# Altium footprint library DIP Fuse.PcbLib: 7 footprints
Each footprint in its own frame and in the unit in brackets; x right, y up, seen from the top. Pads: shape width x height; smd on the part's side, far side on the other; paste and mask are expansions set on the pad; w line width, h text height; cw(c..) or ccw(c..) is an arc to the next point about the centre after c.
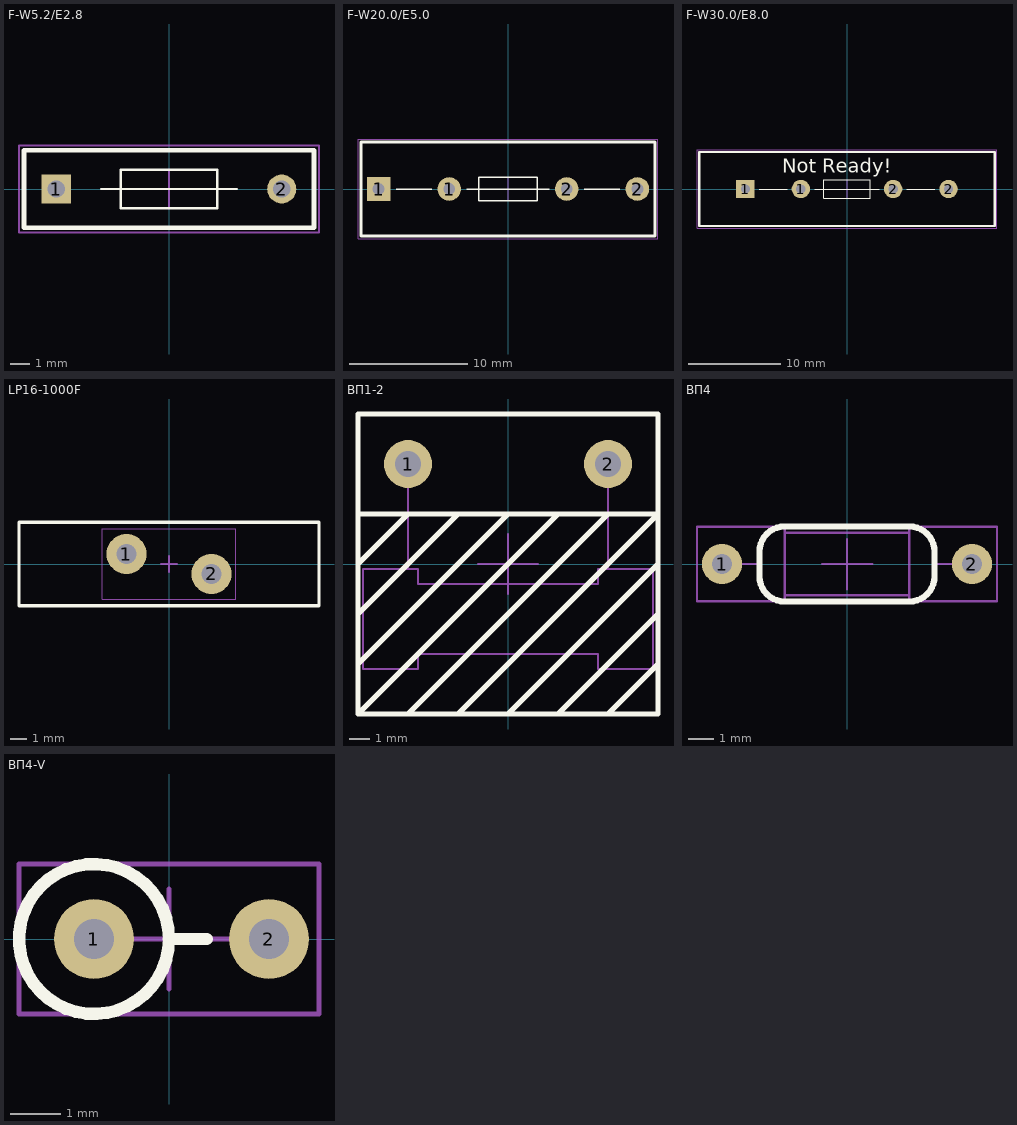
[diagram p0: the footprints below, top view; thin cyan lines are the x and y axes]

## F-W5.2/E2.8 [mm] "Through-hole Mount Fuse; 2 Leads"
height 5
pads (2):
  rect 1.5x1.5 hole 0.9: 1(-5.825,0)
  round 1.5 hole 0.9: 2(5.825,0)
Top Overlay:
  lines w0.125: -3.5,0 3.5,0 ; -2.5,-1 -2.5,1 2.5,1 2.5,-1 -2.5,-1
  lines w0.25: -7.5,-2 7.5,-2 7.5,2 -7.5,2 -7.5,-2
Mechanical 15:
  lines w0.1: -1,0 1,0 ; 0,-1 0,1 ; -7.75,-2.25 7.75,-2.25 7.75,2.25 -7.75,2.25 -7.75,-2.25

## F-W20.0/E5.0 [mm] "General Fuse Holder 5x20"
height 7
pads (4):
  rect 2x2 hole 1: 1(-11,0)
  round 2 hole 1: 1(-5,0) 2(5,0) 2(11,0)
Top Overlay:
  lines w0.125: -9.5,0 -6.5,0 ; -3.5,0 3.5,0 ; 6.5,0 9.5,0 ; -2.5,-1 -2.5,1 2.5,1 2.5,-1 -2.5,-1
  lines w0.25: -12.5,-4 -12.5,4 12.5,4 12.5,-4 -12.5,-4
Mechanical 15:
  lines w0.1: -1,0 1,0 ; 0,-1 0,1 ; -12.75,-4.25 -12.75,4.25 12.75,4.25 12.75,-4.25 -12.75,-4.25
3D body "User Library-littelfuse_102_071.step": height 10.67, standoff -3.56, extent -11.612,-3.446 -4.5,3.446
3D body "User Library-littelfuse_102_071.step": height 10.67, standoff -3.56, extent 4.444,-3.5 11.556,3.391
3D body "User Library-Fuse Small 1A.step": height 9.25, standoff 4.15, extent -9.85,-2.55 9.85,2.55

## F-W30.0/E8.0 [mm] "General Fuse Holder ???"
height 7
pads (4):
  rect 2x2 hole 1: 1(-11,0)
  round 2 hole 1: 1(-5,0) 2(5,0) 2(11,0)
Top Overlay:
  lines w0.125: -9.5,0 -6.5,0 ; -3.5,0 3.5,0 ; 6.5,0 9.5,0 ; -2.5,-1 -2.5,1 2.5,1 2.5,-1 -2.5,-1
  lines w0.25: -16,-4 -16,4 16,4 16,-4 -16,-4
  text "Not Ready!" at -7,1.75 h1.52
Mechanical 15:
  lines w0.1: -1,0 1,0 ; 0,-1 0,1 ; -16.25,-4.25 -16.25,4.25 16.25,4.25 16.25,-4.25 -16.25,-4.25
3D body "SW3dPS-Fuse-2.STEP": height 9.96, standoff 3.61, extent -15.88,-3.15 15.88,3.2

## LP16-1000F [mm]
height 27
pads (2):
  round 2.4 hole 1.2: 1(-2.55,0.6) 2(2.55,-0.6)
Top Overlay:
  lines w0.2: -9,-2.5 9,-2.5 9,2.5 -9,2.5 -9,-2.5
Mechanical 7:
  lines w0.05: -4,-2.1 -4,2.1 4,2.1 4,-2.1 -4,-2.1
  text ".Designator" at -2.25,-0.5 h1.5
Mechanical 15:
  lines w0.1: -0.5,0 0.5,0 ; 0,-0.5 0,0.5 ; -9,-2.5 -9,2.5 9,2.5 9,-2.5 -9,-2.5
3D body "LP16-1000F.STEP": height 33.6, standoff -2, extent -8.6,-1.599 8.6,1.599

## ВП1-2 [mm] "Установка на лепестки ______ по ГОСТ 16840-78"
pads (2):
  round 2.4 hole 1.3: 1(-5,5) 2(5,5)
Top Overlay:
  lines w0.25: -7.5,-5 0,2.5 ; -7.5,-2.5 -2.5,2.5 ; -7.5,0 -5,2.5 ; -7.5,2.5 7.5,2.5 -2.5,-7.5 ; -5,-7.5 5,2.5 ; 0,-7.5 7.5,0 ; 2.5,-7.5 7.5,-2.5 ; 2.5,2.5 -7.5,-7.5 ; 5,-7.5 7.5,-5 ; -7.5,-7.5 -7.5,7.5 7.5,7.5 7.5,-7.5 -7.5,-7.5
Mechanical 13:
  lines w0.1: -5,-0.25 -5,5 ; 5,-0.25 5,5 ; -7.25,-5.25 -7.25,-0.25 -4.5,-0.25 -4.5,-1 4.5,-1 4.5,-0.25 7.25,-0.25 7.25,-5.25 4.5,-5.25 4.5,-4.5 -4.5,-4.5 -4.5,-5.25 -7.25,-5.25
Mechanical 15:
  lines w0.1: -1.5,0 1.5,0 ; 0,-1.5 0,1.5 ; -7.5,-7.5 -7.5,7.5 7.5,7.5 7.5,-7.5 -7.5,-7.5
3D body: height 6.2, standoff 4.8, extent 4.203,4.2 5.797,5.797
3D body: height 6.2, standoff 4.8, extent -5.797,4.2 -4.203,5.797
3D body: height 10, standoff 0, extent -5.75,4.251 -4.256,5.749
3D body: height 10, standoff 0, extent 4.25,4.251 5.744,5.749
3D body: height 6, standoff 5, extent 4.775,-0.325 4.8,4.675
3D body: height 6, standoff 5, extent -4.7,-0.35 -4.675,4.65
3D body: height 7.68, standoff 2.7, extent 4.775,-5.19 7.275,-0.2
3D body: height 7.68, standoff 2.7, extent -7.175,-5.215 -4.675,-0.225
3D body: height 6.94, standoff 3.45, extent -6.925,-4.468 7.075,-0.975

## ВП4 [mm]
height 3
pads (2):
  round 1.6 hole 0.8: 1(-5,0) 2(5,0)
Top Overlay:
  lines w0.25: -3.5,-0.5 ccw(c-2.5,-0.5) -2.5,-1.5 2.5,-1.5 ccw(c2.5,-0.5) 3.5,-0.5 3.5,0.5 ccw(c2.5,0.5) 2.5,1.5 -2.5,1.5 ccw(c-2.5,0.5) -3.5,0.5 -3.5,-0.5
Mechanical 13:
  lines w0.1: -5,0 -3.5,0 ; -2.5,-1.25 2.5,-1.25 ; -2.5,1.25 2.5,1.25 ; 3.5,0 5,0 ; -3.5,-0.5 ccw(c-2.5,-0.5) -2.5,-1.5 -2.5,1.5 ccw(c-2.5,0.5) -3.5,0.5 -3.5,-0.5 ; 2.5,-1.5 ccw(c2.5,-0.5) 3.5,-0.5 3.5,0.5 ccw(c2.5,0.5) 2.5,1.5 2.5,-1.5
Mechanical 15:
  lines w0.1: -1,0 1,0 ; 0,-1 0,1 ; -6,-1.5 -6,1.5 6,1.5 6,-1.5 -6,-1.5

## ВП4-V [mm]
height 10
pads (2):
  round 1.6 hole 0.8: 1(-1.5,0) 2(2,0)
Top Overlay:
  circle w0.25: c-1.5,0 r1.5
  lines w0.25: 0,0 0.75,0
Mechanical 13:
  circle w0.1: c-1.5,0 r1.5
  lines w0.1: 0,0 2,0
Mechanical 15:
  lines w0.1: -1,0 1,0 ; 0,-1 0,1 ; -3,-1.5 3,-1.5 3,1.5 -3,1.5 -3,-1.5